# EAGLE library part MCU-LPC11U35FHI33/501 (library OPL)
Microcontrollers 32-bit ARM architecture
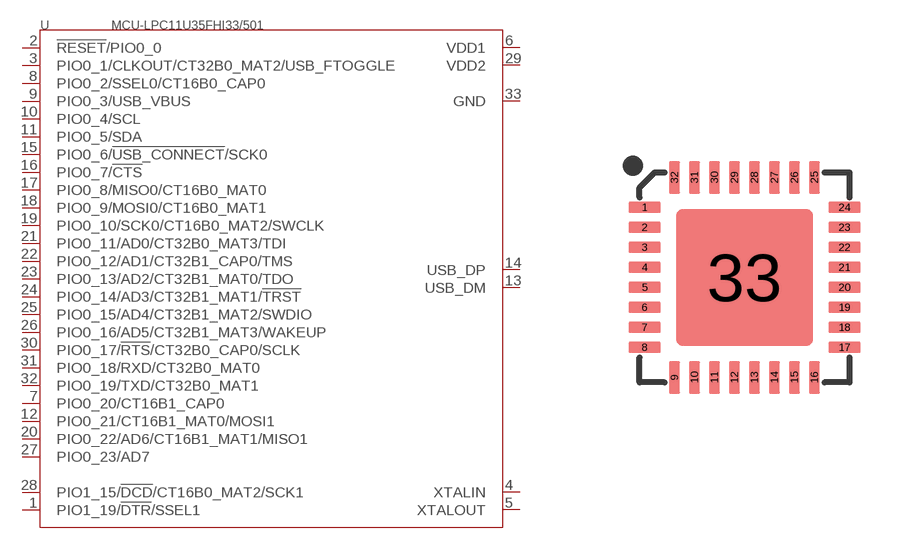
[diagram p29: symbol with the pads of HVQFN-32; footprint HVQFN-32]

Designator prefix U

## MCU-LPC11U35FHI33/501-310010053  [HVQFN-32]
1  PIO1_19/!DTR!/SSEL1
2  !RESET!/PIO0_0
3  PIO0_1/CLKOUT/CT32B0_MAT2/USB_FTOGGLE
4  XTALIN
5  XTALOUT
6  VDD1
7  PIO0_20/CT16B1_CAP0
8  PIO0_2/SSEL0/CT16B0_CAP0
9  PIO0_3/USB_VBUS
10  PIO0_4/SCL
11  PIO0_5/SDA
12  PIO0_21/CT16B1_MAT0/MOSI1
13  USB_DM
14  USB_DP
15  PIO0_6/!USB_CONNECT!/SCK0
16  PIO0_7/!CTS!
17  PIO0_8/MISO0/CT16B0_MAT0
18  PIO0_9/MOSI0/CT16B0_MAT1
19  PIO0_10/SCK0/CT16B0_MAT2/SWCLK
20  PIO0_22/AD6/CT16B1_MAT1/MISO1
21  PIO0_11/AD0/CT32B0_MAT3/TDI
22  PIO0_12/AD1/CT32B1_CAP0/TMS
23  PIO0_13/AD2/CT32B1_MAT0/TDO
24  PIO0_14/AD3/CT32B1_MAT1/!TRST!
25  PIO0_15/AD4/CT32B1_MAT2/SWDIO
26  PIO0_16/AD5/CT32B1_MAT3/WAKEUP
27  PIO0_23/AD7
28  PIO1_15/!DCD!/CT16B0_MAT2/SCK1
29  VDD2
30  PIO0_17/!RTS!/CT32B0_CAP0/SCLK
31  PIO0_18/RXD/CT32B0_MAT0
32  PIO0_19/TXD/CT32B0_MAT1
33  GND

## Footprint HVQFN-32 (pad centres in mm)
smd 0.813 x 0.279: 1 -2.5,1.75; 2 -2.5,1.25; 3 -2.5,0.75; 4 -2.5,0.25; 5 -2.5,-0.25; 6 -2.5,-0.75; 7 -2.5,-1.25; 8 -2.5,-1.75; 17 2.5,-1.75; 18 2.5,-1.25; 19 2.5,-0.75; 20 2.5,-0.25; 21 2.5,0.25; 22 2.5,0.75; 23 2.5,1.25; 24 2.5,1.75
smd 0.279 x 0.813: 9 -1.75,-2.5; 10 -1.25,-2.5; 11 -0.75,-2.5; 12 -0.25,-2.5; 13 0.25,-2.5; 14 0.75,-2.5; 15 1.25,-2.5; 16 1.75,-2.5; 25 1.75,2.5; 26 1.25,2.5; 27 0.75,2.5; 28 0.25,2.5; 29 -0.25,2.5; 30 -0.75,2.5; 31 -1.25,2.5; 32 -1.75,2.5
smd 3.429 x 3.429: 33 0,0